# EAGLE library part SFG-60 (library sfg-60)
60-pin connector side slot
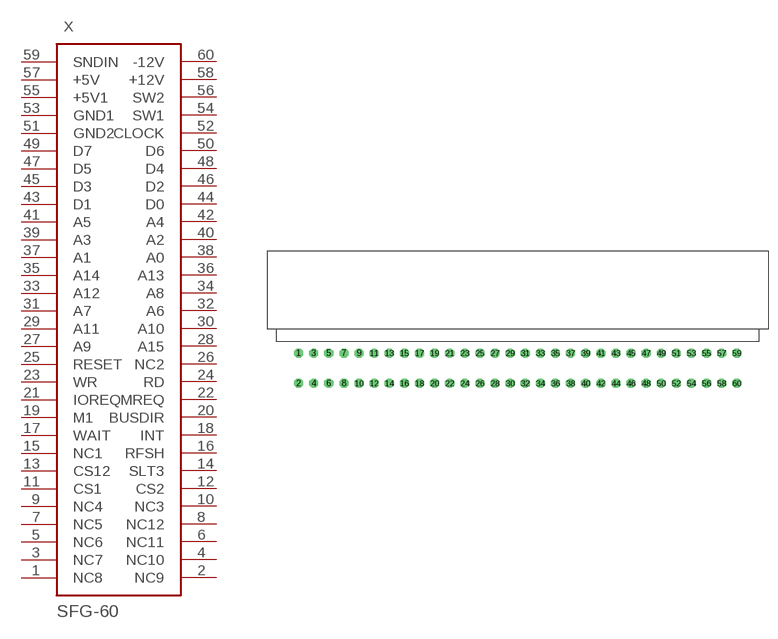
[diagram p0: symbol with the pads of SFG-60; footprint SFG-60]

Designator prefix X

## SFG-60  [SFG-60]
1  NC8
2  NC9
3  NC7
4  NC10
5  NC6
6  NC11
7  NC5
8  NC12
9  NC4
10  NC3
11  CS1
12  CS2
13  CS12
14  SLT3
15  NC1
16  RFSH
17  WAIT
18  INT
19  M1
20  BUSDIR
21  IOREQ
22  MREQ
23  WR
24  RD
25  RESET
26  NC2
27  A9
28  A15
29  A11
30  A10
31  A7
32  A6
33  A12
34  A8
35  A14
36  A13
37  A1
38  A0
39  A3
40  A2
41  A5
42  A4
43  D1
44  D0
45  D3
46  D2
47  D5
48  D4
49  D7
50  D6
51  GND2
52  CLOCK
53  GND1
54  SW1
55  +5V1
56  SW2
57  +5V
58  +12V
59  SNDIN
60  -12V

## Footprint SFG-60 (pad centres in mm)
CONNECTOR SFG 60 pin side slot angled
drill 1 octagon: 1 -36.25,3.54; 2 -36.25,-1.46; 3 -33.75,3.54; 4 -33.75,-1.46; 5 -31.25,3.54; 6 -31.25,-1.46; 7 -28.75,3.54; 8 -28.75,-1.46; 9 -26.25,3.54; 10 -26.25,-1.46; 11 -23.75,3.54; 12 -23.75,-1.46; 13 -21.25,3.54; 14 -21.25,-1.46; 15 -18.75,3.54; 16 -18.75,-1.46; 17 -16.25,3.54; 18 -16.25,-1.46; 19 -13.75,3.54; 20 -13.75,-1.46; 21 -11.25,3.54; 22 -11.25,-1.46; 23 -8.75,3.54; 24 -8.75,-1.46; 25 -6.25,3.54; 26 -6.25,-1.46; 27 -3.75,3.54; 28 -3.75,-1.46; 29 -1.25,3.54; 30 -1.25,-1.46; 31 1.25,3.54; 32 1.25,-1.46; 33 3.75,3.54; 34 3.75,-1.46; 35 6.25,3.54; 36 6.25,-1.46; 37 8.75,3.54; 38 8.75,-1.46; 39 11.25,3.54; 40 11.25,-1.46; 41 13.75,3.54; 42 13.75,-1.46; 43 16.25,3.54; 44 16.25,-1.46; 45 18.75,3.54; 46 18.75,-1.46; 47 21.25,3.54; 48 21.25,-1.46; 49 23.75,3.54; 50 23.75,-1.46; 51 26.25,3.54; 52 26.25,-1.46; 53 28.75,3.54; 54 28.75,-1.46; 55 31.25,3.54; 56 31.25,-1.46; 57 33.75,3.54; 58 33.75,-1.46; 59 36.25,3.54; 60 36.25,-1.46